# EAGLE library part DF13-8P-1.25 (library Connector)
CONN HEADER 2POS 1.25MM R/A Hirose DF13 <http://www.hirose.co.jp/cataloge_hp/en_DF13_20130411.pdf>
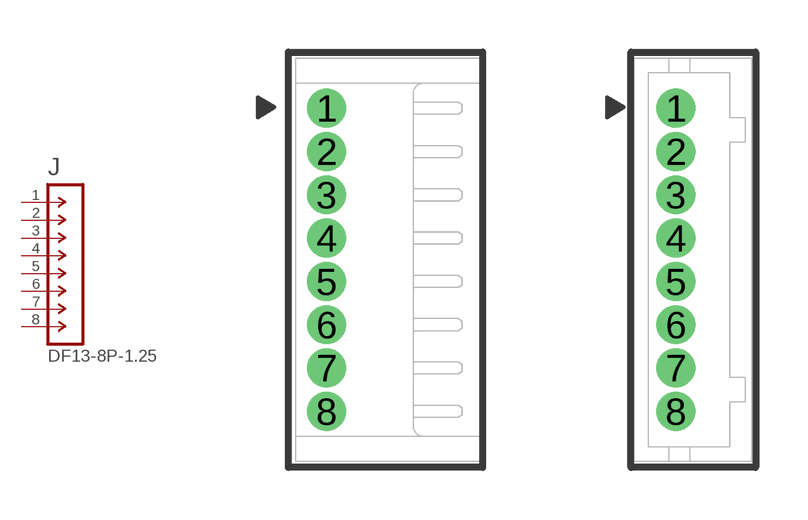
[diagram p10: symbol with the pads of DF13-8P-1.25DS; footprints DF13-8P-1.25DS, DF13-8P-1.25DSA]

Designator prefix J

## DF13-8P-1.25DS (MFPN: DF13-8P-1.25DS; PARTNO: 29-100877-00)  [DF13-8P-1.25DS]
1  1  pas
2  2  pas
3  3  pas
4  4  pas
5  5  pas
6  6  pas
7  7  pas
8  8  pas

## DF13-8P-1.25DSA (MFPN: DF13-8P-1.25DSA; PARTNO: 29-100856-00)  [DF13-8P-1.25DSA]
Pads as for DF13-8P-1.25DS

## Footprint DF13-8P-1.25DS (pad centres in mm)
DF13A-8P-1.25DS Datasheet <http://media.digikey.com/pdf/Data%20Sheets/Hirose%20PDFs/DF13.pdf>
drill 0.61 pad 1: 1 0,4.375; 2 0,3.125; 3 0,1.875; 4 0,0.625; 5 0,-0.625; 6 0,-1.875; 7 0,-3.125; 8 0,-4.375

## Footprint DF13-8P-1.25DSA (pad centres in mm)
DF13A-8P-1.25DSA CONN HEADER 8POS 1.25MM STR TIN Datasheet <http://media.digikey.com/pdf/Data%20Sheets/Hirose%20PDFs/DF13.pdf>
drill 0.61 pad 1: 1 0,4.375; 2 0,3.125; 3 0,1.875; 4 0,0.625; 5 0,-0.625; 6 0,-1.875; 7 0,-3.125; 8 0,-4.375